# Altium schematic symbol library libraries.SchLib: 1 symbol
Pins are listed as number, name and electrical type; pins without a type are passive.

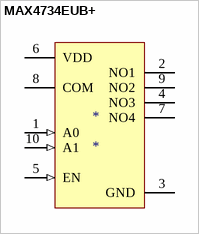
[diagram p0: symbol MAX4734EUB+]

## MAX4734EUB+
designator *
0.8Ohm, Low-Voltage, 4-Channel Analog Multiplexer; Manufacturer: Maxim; Manufacturer Part Number: MAX4734EUB+; Max Supply Voltage: 3.6V; Min Supply Voltage: 1.6V; Max Power Dissipation: 444mW; On-State Resistance: 800mR; Supply Type: Single; Operating Supply Current: 1uA; Turn-On Delay Time: 30ns; Turn-Off Delay Time: 25ns; Number of Channels: 1; Operating Supply Voltage: 3V; Bandwidth: 90MHz; Supplier 1: Arrow Electronics; RoHS: Yes; Category: Decoders and Multiplexers; Stock 1: 150; Pricing 1: 50=2,05400, 100=1,79500, 250=1,77300 (USD); Mount: Surface Mount; Case/Package: UMAX; Number of Pins: 10; Min Operating Temperature: -40°C; Max Operating Temperature: 85°C; Packaging: Rail/Tube; Package Quantity: 50; Series: -; Number of Switches: 1; Logic Function: Multiplexer; Number of Circuits: 1; Length: 3.05mm; Width: 3.05mm; Height: 0.95mm; Radiation Hardening: No; RoHS Compliant: Yes; REACH SVHC: Unknown; ComponentLink1URL: https://datasheet.ciiva.com/14085/max4734-14085148.pdf?src-supplier=Digi-Key; ComponentLink1Description: https://datasheet.ciiva.com/14085/max4734-14085148.pdf?src-supplier=Digi-Key; ComponentLink2URL: https://datasheet.ciiva.com/2979/max4734-2979848.pdf?src-supplier=Avnet; ComponentLink2Description: https://datasheet.ciiva.com/2979/max4734-2979848.pdf?src-supplier=Avnet; Supplier Part Number 1: MAX4734EUB+
pins: 1 A0 (in), 2 NO1, 3 GND (power), 4 NO3, 5 EN (in), 6 VDD (power), 7 NO4, 8 COM, 9 NO2, 10 A1 (in)